# Altium schematic symbol library CAP(100n, SMD-0603).SchLib: 1 symbol
Pins are listed as number, name and electrical type; pins without a type are passive.

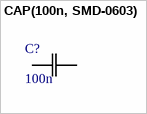
[diagram p0: symbol CAP(100n, SMD-0603)]

## CAP(100n, SMD-0603)
designator C?, comment 100n
CAP(100n, SMD-0603); Manufacturer: Kemet; Manufacturer_Part_Number: C0603C104K8RACTU; Datasheet: https://content.kemet.com/datasheets/KEM_C1002_X7R_SMD.pdf; Digikey_Link: https://www.digikey.it/en/products/detail/kemet/C0603C104K8RACTU/411094
footprint CAPC17595_95N_KEM
pins: 1, 2